# Altium schematic symbol library SchlibNOUS.SchLib: 1 symbol
Pins are listed as number, name and electrical type; pins without a type are passive.

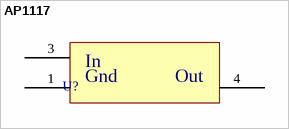
[diagram p0: symbol AP1117]

## AP1117
designator U?  (value not drawn)
footprint AP1117 (Footprint not found)
pins: 1, 3, 4
text: In; Gnd; Out